# EAGLE library part LP8340LD (library NatSemi)
National Semiconductor LP8340LD 1A, LDO Voltage Regulator
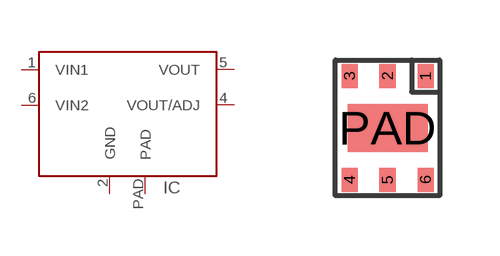
[diagram p0: symbol with the pads of NS-LLP6; footprint NS-LLP6]

Designator prefix IC

## LP8340LD  [NS-LLP6]
1  VIN1
2  GND
4  VOUT/ADJ
5  VOUT
6  VIN2
PAD  PAD

## Footprint NS-LLP6 (pad centres in mm)
National Semiconductor LLP-6
smd 0.4 x 0.6: 1 0.95,1.3; 2 0,1.3; 3 -0.95,1.3; 4 -0.95,-1.3; 5 0,-1.3; 6 0.95,-1.3
smd 2 x 1.2: PAD 0,0